# Altium footprint library WR-TBL_Wire Protector_10.00mm.PcbLib: 57 footprints (part 3 of 4)
Each footprint in its own frame and in the unit in brackets; x right, y up, seen from the top. Pads: shape width x height; smd on the part's side, far side on the other; paste and mask are expansions set on the pad; w line width, h text height; cw(c..) or ccw(c..) is an arc to the next point about the centre after c.
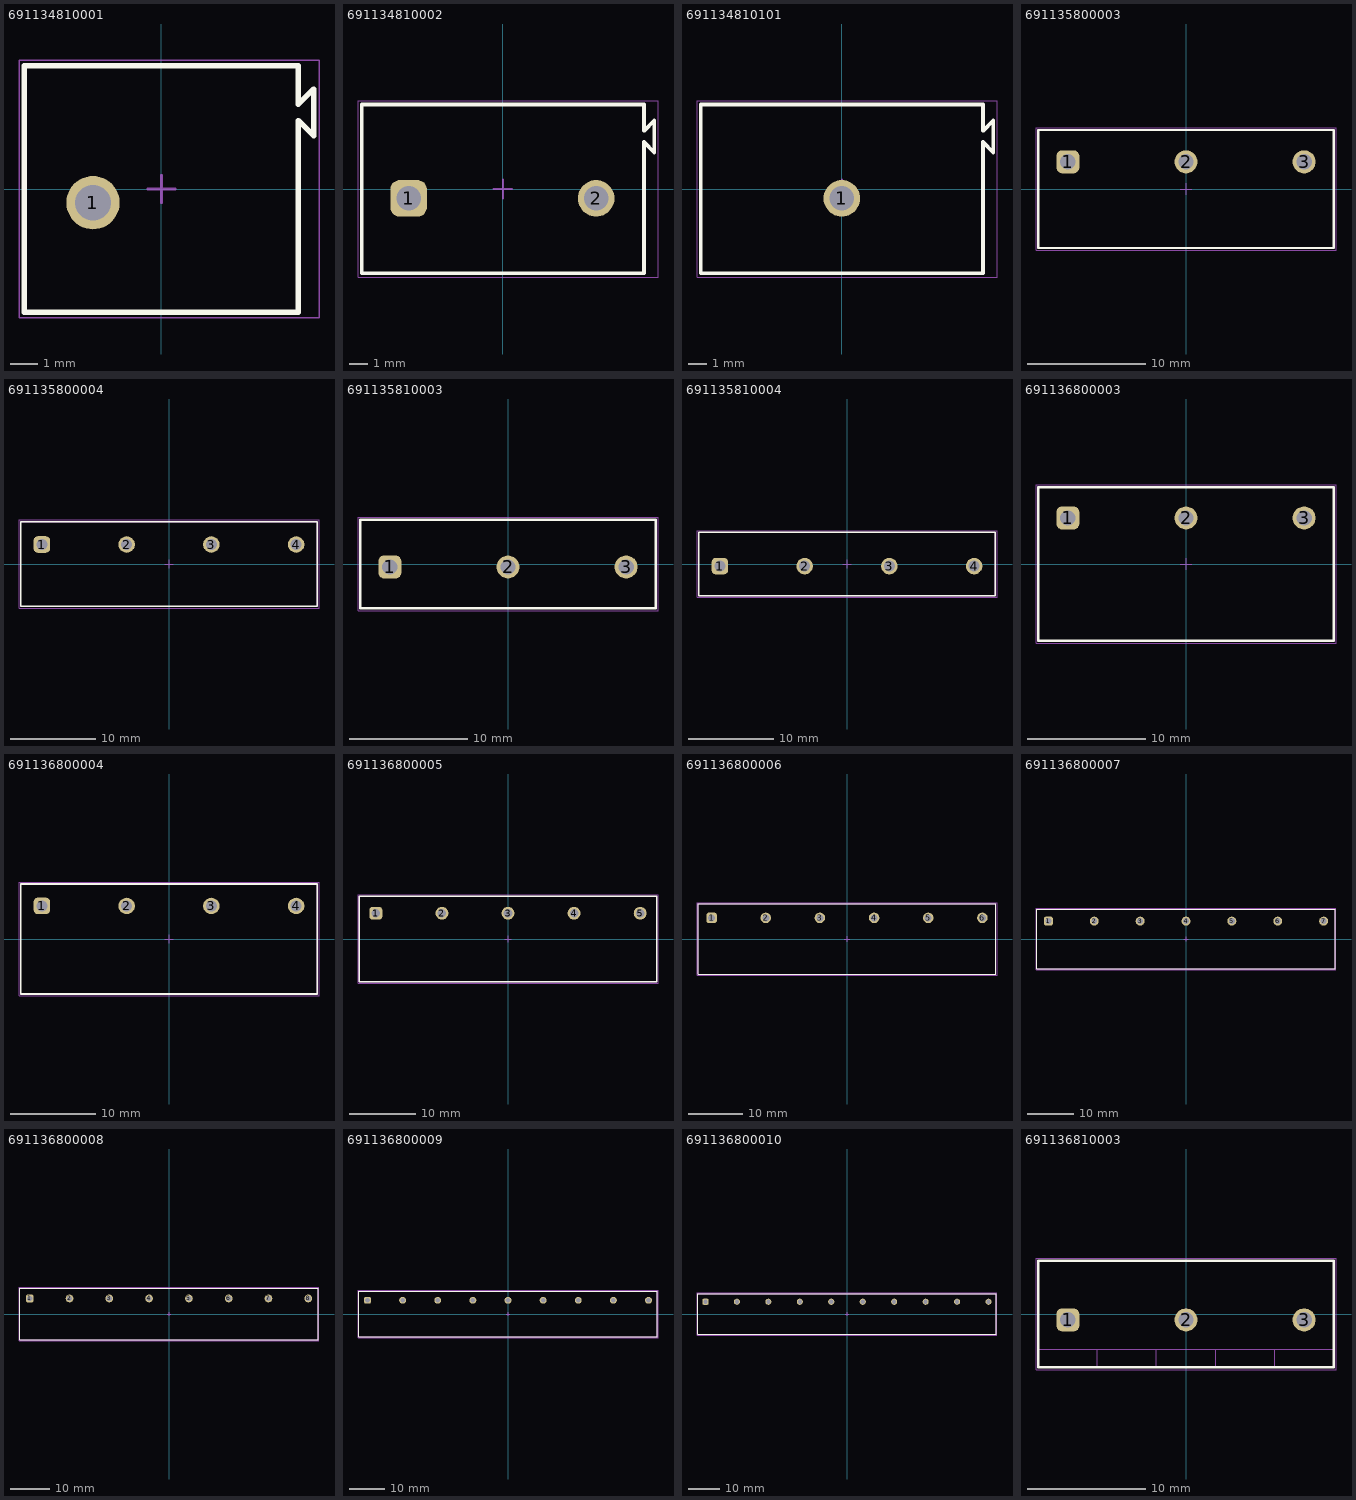
[diagram p2: the footprints below, top view; thin cyan lines are the x and y axes]

## 691134810001 [mm] "Serie 1348 - 10.00 mm _1 pin"
height 13
pads (1):
  round 1.95 hole 1.3: 1(-2.5,-0.5)
Top Overlay:
  lines w0.2: -5,-4.5 5,-4.5 5,2.5 5.55,1.95 5.55,3.65 5,3.1 5,4.5 -5,4.5 -5,-4.5
Top Assembly:
  lines w0.1: -5,-4.5 -5,4.5 5,4.5 5,3.1 5.55,3.65 5.55,1.95 5,2.5 5,-4.5 -5,-4.5
Top Designator:
  text ".Designator" at -3.647,-0.357 h1
Top 3D Body:
  lines w0.1: -5,-4.5 5,-4.5 5,2.5 5.55,1.95 5.55,3.65 5,3.1 5,4.5 -5,4.5 -5,-4.5
Top Courtyard:
  lines w0.05: -5.2,-4.7 5.75,-4.7 5.75,4.7 -5.2,4.7 -5.2,-4.7
Top Component Center:
  lines w0.1: -0.5,0 0.5,0 ; 0,-0.5 0,0.5
3D body "691134810001.stp": height 13.1, standoff -3.9, extent -4.95,-4.5 5.6,4.5

## 691134810002 [mm] "Serie 1348 - 10.00 mm _2 pins"
height 13
pads (2):
  rrect50% 1.95x1.95 hole 1.3: 1(-5.025,-0.5)
  round 1.95 hole 1.3: 2(4.975,-0.5)
Top Overlay:
  lines w0.2: -7.525,-4.5 -7.525,4.5 7.525,4.5 7.525,3.1 8.075,3.65 8.075,1.95 7.525,2.5 7.525,-4.5 -7.525,-4.5
Top Assembly:
  lines w0.1: -7.525,-4.5 7.525,-4.5 7.525,2.5 8.075,1.95 8.075,3.65 7.525,3.1 7.525,4.5 -7.525,4.5 -7.525,-4.5
Top Designator:
  text ".Designator" at -3.647,-0.357 h1
Top 3D Body:
  lines w0.1: -7.525,-4.5 -7.525,4.5 7.525,4.5 7.525,3.1 8.075,3.65 8.075,1.95 7.525,2.5 7.525,-4.5 -7.525,-4.5
Top Courtyard:
  lines w0.05: -7.725,-4.7 8.275,-4.7 8.275,4.7 -7.725,4.7 -7.725,-4.7
Top Component Center:
  lines w0.1: -0.5,0 0.5,0 ; 0,-0.5 0,0.5
3D body "691134810002.stp": height 13.1, standoff -3.9, extent -7.5,-4.5 8.05,4.5

## 691134810101 [mm] "Serie 1348 - 10.00 mm _1 pin"
height 13
pads (1):
  round 1.95 hole 1.3: 1(0,-0.5)
Top Overlay:
  lines w0.2: -7.525,-4.5 -7.525,4.5 7.525,4.5 7.525,3.1 8.075,3.65 8.075,1.95 7.525,2.5 7.525,-4.5 -7.525,-4.5
Top Assembly:
  lines w0.1: -7.525,-4.5 7.525,-4.5 7.525,2.5 8.075,1.95 8.075,3.65 7.525,3.1 7.525,4.5 -7.525,4.5 -7.525,-4.5
Top Designator:
  text ".Designator" at -3.647,-0.357 h1
Top 3D Body:
  lines w0.1: -7.525,-4.5 -7.525,4.5 7.525,4.5 7.525,3.1 8.075,3.65 8.075,1.95 7.525,2.5 7.525,-4.5 -7.525,-4.5
Top Courtyard:
  lines w0.05: -7.725,-4.7 8.275,-4.7 8.275,4.7 -7.725,4.7 -7.725,-4.7
Top Component Center:
  lines w0.1: -0.5,0 0.5,0 ; 0,-0.5 0,0.5
3D body "691134810101.stp": height 13.1, standoff -3.9, extent -7.475,-4.5 8.075,4.5

## 691135800003 [mm] "Verticle Cable Entry with Pressure Clamp, pitch 10mm, 03p"
height 7.5
pads (3):
  rrect50% 1.95x1.95 hole 1.3: 1(-10,2.3)
  round 1.95 hole 1.3: 2(0,2.3) 3(10,2.3)
Top Overlay:
  lines w0.2: -12.5,-5 -12.5,5 12.5,5 12.5,-5 -12.5,-5
Top Assembly:
  lines w0.1: -12.5,-5 12.5,-5 12.5,5 -12.5,5 -12.5,-5
Top Designator:
  text ".Designator" at -3.647,-0.357 h1
Top 3D Body:
  lines w0.1: -12.5,-5 -12.5,5 12.5,5 12.5,-5 -12.5,-5
Top Courtyard:
  lines w0.05: -12.7,-5.2 -12.7,5.2 12.7,5.2 12.7,-5.2 -12.7,-5.2
Top Component Center:
  lines w0.1: -0.5,0 0.5,0 ; 0,-0.5 0,0.5
3D body "691135800003.stp": height 7.6, standoff -3.6, extent -12.5,-5 12.5,5

## 691135800004 [mm] "Verticle Cable Entry with Pressure Clamp, pitch 10mm, 04p"
height 7.5
pads (4):
  rrect50% 1.95x1.95 hole 1.3: 1(-15,2.3)
  round 1.95 hole 1.3: 2(-5,2.3) 3(5,2.3) 4(15,2.3)
Top Overlay:
  lines w0.2: -17.5,-5 17.5,-5 17.5,5 -17.5,5 -17.5,-5
Top Assembly:
  lines w0.1: -17.5,-5 -17.5,5 17.5,5 17.5,-5 -17.5,-5
Top Designator:
  text ".Designator" at -3.647,-0.357 h1
Top 3D Body:
  lines w0.1: -17.5,-5 17.5,-5 17.5,5 -17.5,5 -17.5,-5
Top Courtyard:
  lines w0.05: -17.7,-5.2 17.7,-5.2 17.7,5.2 -17.7,5.2 -17.7,-5.2
Top Component Center:
  lines w0.1: -0.5,0 0.5,0 ; 0,-0.5 0,0.5
3D body "691135800004.stp": height 7.6, standoff -3.6, extent -17.5,-5 17.5,5

## 691135810003 [mm] "Horizontal Cable Entry with Pressure Clamp, pitch 10mm, 03p"
height 10
pads (3):
  rrect50% 1.95x1.95 hole 1.3: 1(-10,-0.25)
  round 1.95 hole 1.3: 2(0,-0.25) 3(10,-0.25)
Top Overlay:
  lines w0.2: -12.5,-3.75 -12.5,3.75 12.5,3.75 12.5,-3.75 -12.5,-3.75
Top Assembly:
  lines w0.1: -12.5,-3.75 12.5,-3.75 12.5,3.75 -12.5,3.75 -12.5,-3.75
Top Designator:
  text ".Designator" at -3.647,-0.357 h1
Top 3D Body:
  lines w0.1: -12.5,-3.75 -12.5,3.75 12.5,3.75 12.5,-3.75 -12.5,-3.75
Top Courtyard:
  lines w0.05: -12.7,-3.95 12.7,-3.95 12.7,3.95 -12.7,3.95 -12.7,-3.95
Top Component Center:
  lines w0.1: -0.5,0 0.5,0 ; 0,-0.5 0,0.5
3D body "691135810003.stp": height 10.1, standoff -3.9, extent -12.5,-3.75 12.5,3.75

## 691135810004 [mm] "Horizontal Cable Entry with Pressure Clamp, pitch 10mm, 04p"
height 10
pads (4):
  rrect50% 1.95x1.95 hole 1.3: 1(-15,-0.25)
  round 1.95 hole 1.3: 2(-5,-0.25) 3(5,-0.25) 4(15,-0.25)
Top Overlay:
  lines w0.2: -17.5,-3.75 -17.5,3.75 17.5,3.75 17.5,-3.75 -17.5,-3.75
Top Assembly:
  lines w0.1: -17.5,-3.75 17.5,-3.75 17.5,3.75 -17.5,3.75 -17.5,-3.75
Top Designator:
  text ".Designator" at -3.647,-0.357 h1
Top 3D Body:
  lines w0.1: -17.5,-3.75 -17.5,3.75 17.5,3.75 17.5,-3.75 -17.5,-3.75
Top Courtyard:
  lines w0.05: -17.7,-3.95 17.7,-3.95 17.7,3.95 -17.7,3.95 -17.7,-3.95
Top Component Center:
  lines w0.1: -0.5,0 0.5,0 ; 0,-0.5 0,0.5
3D body "691135810004.stp": height 10.1, standoff -3.9, extent -17.5,-3.75 17.5,3.75

## 691136800003 [mm] "Serie 1368 - 10.00 mm _ 3 pins"
height 9
pads (3):
  rrect50% 1.95x1.95 hole 1.3: 1(-10,3.9)
  round 1.95 hole 1.3: 2(0,3.9) 3(10,3.9)
Top Overlay:
  lines w0.2: -12.5,-6.5 -12.5,6.5 12.5,6.5 12.5,-6.5 -12.5,-6.5
Top Assembly:
  lines w0.1: -12.5,-6.5 12.5,-6.5 12.5,6.5 -12.5,6.5 -12.5,-6.5
Top Designator:
  text ".Designator" at -3.647,-0.357 h1
Top 3D Body:
  lines w0.1: -12.5,-6.5 -12.5,6.5 12.5,6.5 12.5,-6.5 -12.5,-6.5
Top Courtyard:
  lines w0.05: -12.7,-6.7 12.7,-6.7 12.7,6.7 -12.7,6.7 -12.7,-6.7
Top Component Center:
  lines w0.1: -0.5,0 0.5,0 ; 0,-0.5 0,0.5
3D body "691136800003.stp": height 9.2, standoff -5.8, extent -12.5,-6.5 12.5,6.5

## 691136800004 [mm] "Serie 1368 - 10.00 mm _ 4 pins"
height 9
pads (4):
  rrect50% 1.95x1.95 hole 1.3: 1(-15,3.9)
  round 1.95 hole 1.3: 2(-5,3.9) 3(5,3.9) 4(15,3.9)
Top Overlay:
  lines w0.2: -17.5,-6.5 17.5,-6.5 17.5,6.5 -17.5,6.5 -17.5,-6.5
Top Assembly:
  lines w0.1: -17.5,-6.5 -17.5,6.5 17.5,6.5 17.5,-6.5 -17.5,-6.5
Top Designator:
  text ".Designator" at -3.647,-0.357 h1
Top 3D Body:
  lines w0.1: -17.5,-6.5 17.5,-6.5 17.5,6.5 -17.5,6.5 -17.5,-6.5
Top Courtyard:
  lines w0.05: -17.7,-6.7 -17.7,6.7 17.7,6.7 17.7,-6.7 -17.7,-6.7
Top Component Center:
  lines w0.1: -0.5,0 0.5,0 ; 0,-0.5 0,0.5
3D body "691136800004.stp": height 9.2, standoff -5.8, extent -17.5,-6.5 17.5,6.5

## 691136800005 [mm] "Serie 1368 - 10.00 mm _ 5 pins"
height 9
pads (5):
  rrect50% 1.95x1.95 hole 1.3: 1(-20,3.9)
  round 1.95 hole 1.3: 2(-10,3.9) 3(0,3.9) 4(10,3.9) 5(20,3.9)
Top Overlay:
  lines w0.2: -22.5,-6.5 22.5,-6.5 22.5,6.5 -22.5,6.5 -22.5,-6.5
Top Assembly:
  lines w0.1: -22.5,-6.5 -22.5,6.5 22.5,6.5 22.5,-6.5 -22.5,-6.5
Top Designator:
  text ".Designator" at -3.647,-0.357 h1
Top 3D Body:
  lines w0.1: -22.5,-6.5 22.5,-6.5 22.5,6.5 -22.5,6.5 -22.5,-6.5
Top Courtyard:
  lines w0.05: -22.7,-6.7 -22.7,6.7 22.7,6.7 22.7,-6.7 -22.7,-6.7
Top Component Center:
  lines w0.1: -0.5,0 0.5,0 ; 0,-0.5 0,0.5
3D body "691136800005.stp": height 9.2, standoff -5.8, extent -22.5,-6.5 22.5,6.5

## 691136800006 [mm] "Serie 1368 - 10.00 mm _ 6 pins"
height 9
pads (6):
  rrect50% 1.95x1.95 hole 1.3: 1(-25,3.9)
  round 1.95 hole 1.3: 2(-15,3.9) 3(-5,3.9) 4(5,3.9) 5(15,3.9) 6(25,3.9)
Top Overlay:
  lines w0.2: -27.5,-6.5 27.5,-6.5 27.5,6.5 -27.5,6.5 -27.5,-6.5
Top Assembly:
  lines w0.1: -27.5,-6.5 -27.5,6.5 27.5,6.5 27.5,-6.5 -27.5,-6.5
Top Designator:
  text ".Designator" at -3.647,-0.357 h1
Top 3D Body:
  lines w0.1: -27.5,-6.5 27.5,-6.5 27.5,6.5 -27.5,6.5 -27.5,-6.5
Top Courtyard:
  lines w0.05: -27.7,-6.7 -27.7,6.7 27.7,6.7 27.7,-6.7 -27.7,-6.7
Top Component Center:
  lines w0.1: -0.5,0 0.5,0 ; 0,-0.5 0,0.5
3D body "691136800006.stp": height 9.2, standoff -5.8, extent -27.5,-6.5 27.5,6.5

## 691136800007 [mm] "Serie 1368 - 10.00 mm _ 7 pins"
height 9
pads (7):
  rrect50% 1.95x1.95 hole 1.3: 1(-30,3.9)
  round 1.95 hole 1.3: 2(-20,3.9) 3(-10,3.9) 4(0,3.9) 5(10,3.9) 6(20,3.9) 7(30,3.9)
Top Overlay:
  lines w0.2: -32.5,-6.5 -32.5,6.5 32.5,6.5 32.5,-6.5 -32.5,-6.5
Top Assembly:
  lines w0.1: -32.5,-6.5 32.5,-6.5 32.5,6.5 -32.5,6.5 -32.5,-6.5
Top Designator:
  text ".Designator" at -3.647,-0.357 h1
Top 3D Body:
  lines w0.1: -32.5,-6.5 -32.5,6.5 32.5,6.5 32.5,-6.5 -32.5,-6.5
Top Courtyard:
  lines w0.05: -32.7,-6.7 32.7,-6.7 32.7,6.7 -32.7,6.7 -32.7,-6.7
Top Component Center:
  lines w0.1: -0.5,0 0.5,0 ; 0,-0.5 0,0.5
3D body "691136800007.stp": height 9.2, standoff -5.8, extent -32.5,-6.5 32.5,6.5

## 691136800008 [mm] "Serie 1368 - 10.00 mm _ 8 pins"
height 9
pads (8):
  rrect50% 1.95x1.95 hole 1.3: 1(-35,3.9)
  round 1.95 hole 1.3: 2(-25,3.9) 3(-15,3.9) 4(-5,3.9) 5(5,3.9) 6(15,3.9) 7(25,3.9) 8(35,3.9)
Top Overlay:
  lines w0.2: -37.5,-6.5 -37.5,6.5 37.5,6.5 37.5,-6.5 -37.5,-6.5
Top Assembly:
  lines w0.1: -37.5,-6.5 37.5,-6.5 37.5,6.5 -37.5,6.5 -37.5,-6.5
Top Designator:
  text ".Designator" at -3.647,-0.357 h1
Top 3D Body:
  lines w0.1: -37.5,-6.5 -37.5,6.5 37.5,6.5 37.5,-6.5 -37.5,-6.5
Top Courtyard:
  lines w0.05: -37.7,-6.7 37.7,-6.7 37.7,6.7 -37.7,6.7 -37.7,-6.7
Top Component Center:
  lines w0.1: -0.5,0 0.5,0 ; 0,-0.5 0,0.5
3D body "691136800008.stp": height 9.2, standoff -5.8, extent -37.5,-6.5 37.5,6.5

## 691136800009 [mm] "Serie 1368 - 10.00 mm _ 9 pins"
height 9
pads (9):
  rrect50% 1.95x1.95 hole 1.3: 1(-40,3.9)
  round 1.95 hole 1.3: 2(-30,3.9) 3(-20,3.9) 4(-10,3.9) 5(0,3.9) 6(10,3.9) 7(20,3.9) 8(30,3.9) 9(40,3.9)
Top Overlay:
  lines w0.2: -42.5,-6.5 42.5,-6.5 42.5,6.5 -42.5,6.5 -42.5,-6.5
Top Assembly:
  lines w0.1: -42.5,-6.5 -42.5,6.5 42.5,6.5 42.5,-6.5 -42.5,-6.5
Top Designator:
  text ".Designator" at -3.647,-0.357 h1
Top 3D Body:
  lines w0.1: -42.5,-6.5 42.5,-6.5 42.5,6.5 -42.5,6.5 -42.5,-6.5
Top Courtyard:
  lines w0.05: -42.7,-6.7 -42.7,6.7 42.7,6.7 42.7,-6.7 -42.7,-6.7
Top Component Center:
  lines w0.1: -0.5,0 0.5,0 ; 0,-0.5 0,0.5
3D body "691136800009.stp": height 9.2, standoff -5.8, extent -42.5,-6.5 42.5,6.5

## 691136800010 [mm] "Serie 1368 - 10.00 mm _ 10 pins"
height 9
pads (10):
  rrect50% 1.95x1.95 hole 1.3: 1(-45,3.9)
  round 1.95 hole 1.3: 2(-35,3.9) 3(-25,3.9) 4(-15,3.9) 5(-5,3.9) 6(5,3.9) 7(15,3.9) 8(25,3.9) 9(35,3.9) 10(45,3.9)
Top Overlay:
  lines w0.2: -47.5,-6.5 47.5,-6.5 47.5,6.5 -47.5,6.5 -47.5,-6.5
Top Assembly:
  lines w0.1: -47.5,-6.5 -47.5,6.5 47.5,6.5 47.5,-6.5 -47.5,-6.5
Top Designator:
  text ".Designator" at -3.647,-0.357 h1
Top 3D Body:
  lines w0.1: -47.5,-6.5 47.5,-6.5 47.5,6.5 -47.5,6.5 -47.5,-6.5
Top Courtyard:
  lines w0.05: -47.7,-6.7 -47.7,6.7 47.7,6.7 47.7,-6.7 -47.7,-6.7
Top Component Center:
  lines w0.1: -0.5,0 0.5,0 ; 0,-0.5 0,0.5
3D body "691136800010.stp": height 9.2, standoff -5.8, extent -47.5,-6.5 47.5,6.5

## 691136810003 [mm] "Serie 1368 - 10.00 mm _ 3 pins"
height 13
pads (3):
  rrect50% 1.95x1.95 hole 1.3: 1(-10,-0.5)
  round 1.95 hole 1.3: 2(0,-0.5) 3(10,-0.5)
Top Overlay:
  lines w0.2: -12.5,-4.5 -12.5,4.5 12.5,4.5 12.5,-4.5 -12.5,-4.5
Top Assembly:
  lines w0.1: -12.5,-3 12.5,-3 ; -7.5,-4.5 -7.5,-3 ; -2.5,-4.5 -2.5,-3 ; 2.5,-4.5 2.5,-3 ; 7.5,-4.5 7.5,-3 ; -12.5,-4.5 12.5,-4.5 12.5,4.5 -12.5,4.5 -12.5,-4.5
Top Designator:
  text ".Designator" at -3.647,-0.357 h1
Top 3D Body:
  lines w0.1: -12.5,-3 12.5,-3 ; -7.5,-4.5 -7.5,-3 ; -2.5,-4.5 -2.5,-3 ; 2.5,-4.5 2.5,-3 ; 7.5,-4.5 7.5,-3 ; -12.5,-4.5 -12.5,4.5 12.5,4.5 12.5,-4.5 -12.5,-4.5
Top Courtyard:
  lines w0.05: -12.7,-4.7 -12.7,4.7 12.7,4.7 12.7,-4.7 -12.7,-4.7
Top Component Center:
  lines w0.1: -0.5,0 0.5,0 ; 0,-0.5 0,0.5
3D body "691136810003.stp": height 13.1, standoff -3.9, extent -12.5,-4.5 12.5,4.5